# EAGLE library part SN75ALS191P (library SamacSys_Parts)
DUAL DIFFERENTIAL LINE DRIVER Source: Datasheet <http://www.ti.com/lit/gpn/sn75als191>
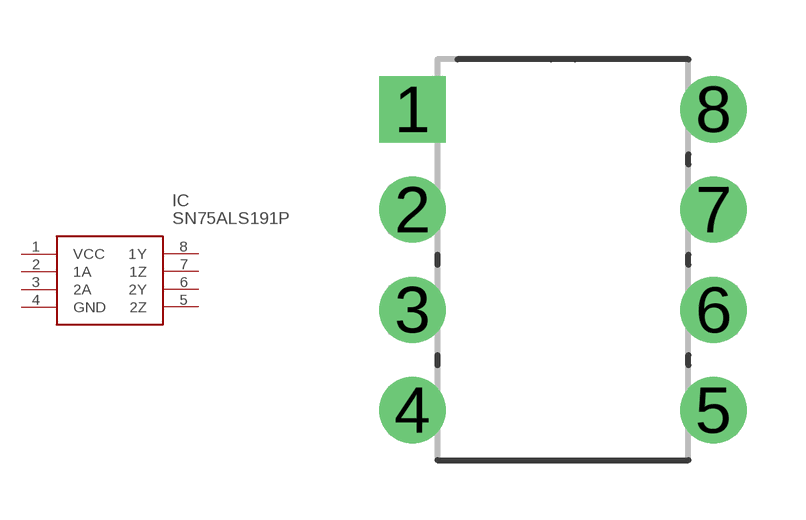
[diagram p0: symbol with the pads of DIP254P762X508-8; footprint DIP254P762X508-8]

Designator prefix IC

## SN75ALS191P (Arrow_Part_Number: SN75ALS191P; Arrow_Price-Stock: https://www.arrow.com/en/products/sn75als191p/texas-instruments; Description: DUAL DIFFERENTIAL LINE DRIVER; Height: mm; Manufacturer_Name: Texas Instruments; Manufacturer_Part_Number: SN75ALS191P; Mouser_Part_Number: 595-SN75ALS191P; Mouser_Price-Stock: https://www.mouser.co.uk/ProductDetail/Texas-Instruments/SN75ALS191P?qs=8yeEWhuAOtPxs8mKjYnsXQ%3D%3D)  [DIP254P762X508-8]
1  VCC
2  1A
3  2A
4  GND
5  2Z
6  2Y
7  1Z
8  1Y

## Footprint DIP254P762X508-8 (pad centres in mm)
DIP254P762X508-8
drill 1.118 pad 1.676 square: 1 -7.62,7.62
drill 1.118 pad 1.676: 2 -7.62,5.08; 3 -7.62,2.54; 4 -7.62,0; 5 0,0; 6 0,2.54; 7 0,5.08; 8 0,7.62